# Altium schematic symbol library LMR51450FNDRRR.SchLib: 1 symbol
Pins are listed as number, name and electrical type; pins without a type are passive.

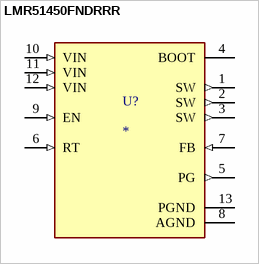
[diagram p0: symbol LMR51450FNDRRR]

## LMR51450FNDRRR
designator U?
MP: LMR51450FNDRRR; Package: None; Price: None; Value: *; Availability: Unavailable
footprint CONV_LMR51450FNDRRR
pins: 1 SW (out), 2 SW (out), 3 SW (out), 4 BOOT, 5 PG (out), 6 RT (in), 7 FB (in), 8 AGND (power), 9 EN (in), 10 VIN (in), 11 VIN (in), 12 VIN (in), 13 PGND (power)